# Altium integrated library National Semiconductor Switcher.IntLib: 2226 symbols (part 57 of 59)
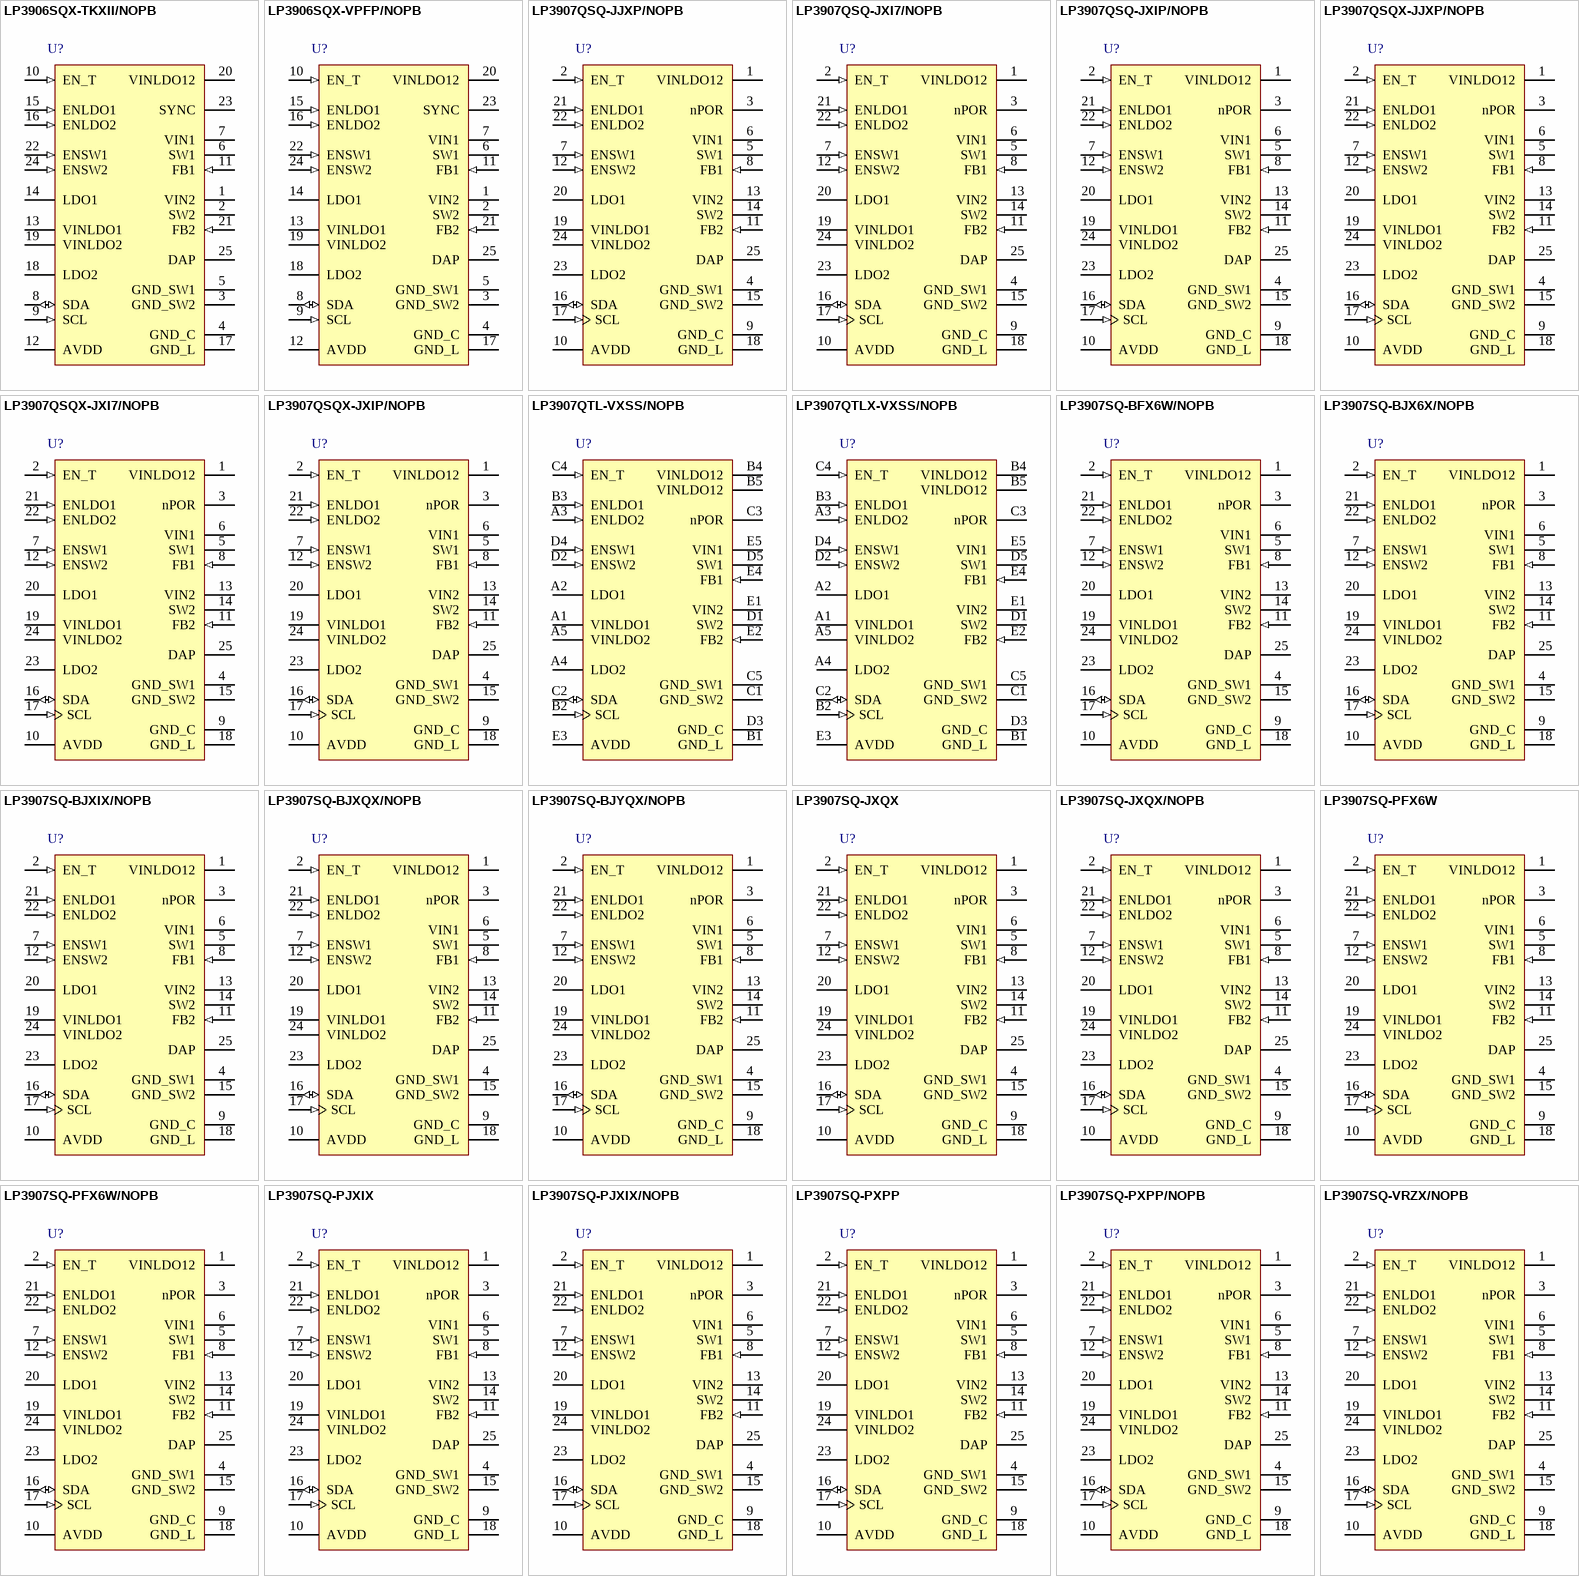
[diagram p125: symbols LP3906SQX-TKXII/NOPB to LP3907SQ-VRZX/NOPB]

## LP3907SQ-JXQX
designator U?
Dual High-Current Step-Down DC/DC and Dual Linear Regulator with I2C Compatible Interface, 24-pin LLP; PartNumber: LP3907SQ-JXQX; Manufacturer: National Semiconductor; PackageTopMarking: NS*UZXYTT*07-JXQX; PowerWise: Y; CompType: Switcher; DatasheetVersion: Dec-2010; PackageVersion: revB, Aug-2003; PackageReference: SQA24A; PackageDescription: LLP, Plastic, Quad, 4 x 4 x 0.8mm Body, 24 Lead, 0.5mm Pitch, No Pullback; RoHS: Y; PinCount: 24; High-Reliability: Y; Code_JEDEC: MO-220-WGGD-6; ComponentLink1Description: Manufacturer URL; ComponentLink1URL: http://www.national.com/; ComponentLink2Description: LP3907 Datasheet; ComponentLink2URL: http://www.national.com/ds/LP/LP3907.pdf; ComponentLink3Description: LP3907 Web Page; ComponentLink3URL: http://www.national.com/pf/LP/LP3907.html; ComponentLink4Description: SQA24A Package Page; ComponentLink4URL: http://www.national.com/packaging/folders/sqa24a.html
footprint SQA24A (QFN, 24-Leads, Body 4x4mm, Pitch 0.5mm, Thermal Pad 2.7x2.7mm, NSC Recommended)
pins: 1 VINLDO12 (power), 2 EN_T (in), 3 nPOR (oc), 4 GND_SW1 (power), 5 SW1 (power), 6 VIN1 (power), 7 ENSW1 (in), 8 FB1 (in), 9 GND_C (power), 10 AVDD (power), 11 FB2 (in), 12 ENSW2 (in), 13 VIN2 (power), 14 SW2 (power), 15 GND_SW2 (power), 16 SDA (io), 17 SCL (in), 18 GND_L (power), 19 VINLDO1 (power), 20 LDO1 (power), 21 ENLDO1 (in), 22 ENLDO2 (in), 23 LDO2 (power), 24 VINLDO2 (power), 25 DAP (power)

## LP3907SQ-JXQX/NOPB
designator U?
Dual High-Current Step-Down DC/DC and Dual Linear Regulator with I2C Compatible Interface, 24-pin LLP, Pb-Free, 1000 Reel; PartNumber: LP3907SQ-JXQX/NOPB; Manufacturer: National Semiconductor; PackageTopMarking: NS*UZXYTT*07-JXQX; PowerWise: Y; CompType: Switcher; DatasheetVersion: Aug-2011; PackageVersion: revB, Aug-2003; PackageReference: SQA24A; PackageDescription: LLP, Plastic, Quad, 4 x 4 x 0.8mm Body, 24 Lead, 0.5mm Pitch, No Pullback; RoHS: Y; PinCount: 24; High-Reliability: Y; Code_JEDEC: MO-220-WGGD-6; ComponentLink1Description: Manufacturer URL; ComponentLink1URL: http://www.national.com/; ComponentLink2Description: LP3907 Datasheet; ComponentLink2URL: http://www.national.com/ds/LP/LP3907.pdf; ComponentLink3Description: LP3907 Web Page; ComponentLink3URL: http://www.national.com/pf/LP/LP3907.html; ComponentLink4Description: SQA24A Package Page; ComponentLink4URL: http://www.national.com/packaging/folders/sqa24a.html
footprint SQA24A (QFN, 24-Leads, Body 4x4mm, Pitch 0.5mm, Thermal Pad 2.7x2.7mm, NSC Recommended)
pins: 1 VINLDO12 (power), 2 EN_T (in), 3 nPOR (oc), 4 GND_SW1 (power), 5 SW1 (power), 6 VIN1 (power), 7 ENSW1 (in), 8 FB1 (in), 9 GND_C (power), 10 AVDD (power), 11 FB2 (in), 12 ENSW2 (in), 13 VIN2 (power), 14 SW2 (power), 15 GND_SW2 (power), 16 SDA (io), 17 SCL (in), 18 GND_L (power), 19 VINLDO1 (power), 20 LDO1 (power), 21 ENLDO1 (in), 22 ENLDO2 (in), 23 LDO2 (power), 24 VINLDO2 (power), 25 DAP (power)

## LP3907SQ-PFX6W
designator U?
Dual High-Current Step-Down DC/DC and Dual Linear Regulator with I2C Compatible Interface, 24-pin LLP; PartNumber: LP3907SQ-PFX6W; Manufacturer: National Semiconductor; PackageTopMarking: NS*UZXYTT*7PFX6W; PowerWise: N; CompType: Switcher; High-Reliability: Y; DatasheetVersion: Dec-2010; PackageVersion: revB, Aug-2003; PackageReference: SQA24A; PackageDescription: LLP, Plastic, Quad, 4 x 4 x 0.8mm Body, 24 Lead, 0.5mm Pitch, No Pullback; RoHS: Y; PinCount: 24; Code_JEDEC: MO-220-WGGD-6; ComponentLink1Description: Manufacturer URL; ComponentLink1URL: http://www.national.com/; ComponentLink2Description: LP3907 Datasheet; ComponentLink2URL: http://www.national.com/ds/LP/LP3907.pdf; ComponentLink3Description: LP3907 Web Page; ComponentLink3URL: http://www.national.com/pf/LP/LP3907.html; ComponentLink4Description: SQA24A Package Page; ComponentLink4URL: http://www.national.com/packaging/folders/sqa24a.html
footprint SQA24A (QFN, 24-Leads, Body 4x4mm, Pitch 0.5mm, Thermal Pad 2.7x2.7mm, NSC Recommended)
pins: 1 VINLDO12 (power), 2 EN_T (in), 3 nPOR (oc), 4 GND_SW1 (power), 5 SW1 (power), 6 VIN1 (power), 7 ENSW1 (in), 8 FB1 (in), 9 GND_C (power), 10 AVDD (power), 11 FB2 (in), 12 ENSW2 (in), 13 VIN2 (power), 14 SW2 (power), 15 GND_SW2 (power), 16 SDA (io), 17 SCL (in), 18 GND_L (power), 19 VINLDO1 (power), 20 LDO1 (power), 21 ENLDO1 (in), 22 ENLDO2 (in), 23 LDO2 (power), 24 VINLDO2 (power), 25 DAP (power)

## LP3907SQ-PFX6W/NOPB
designator U?
Dual High-Current Step-Down DC/DC and Dual Linear Regulator with I2C Compatible Interface, 24-pin LLP, Pb-Free, 1000 Reel; PartNumber: LP3907SQ-PFX6W/NOPB; Manufacturer: National Semiconductor; PackageTopMarking: NS*UZXYTT*7PFX6W; PowerWise: N; CompType: Switcher; High-Reliability: Y; DatasheetVersion: Aug-2011; PackageVersion: revB, Aug-2003; PackageReference: SQA24A; PackageDescription: LLP, Plastic, Quad, 4 x 4 x 0.8mm Body, 24 Lead, 0.5mm Pitch, No Pullback; RoHS: Y; PinCount: 24; Code_JEDEC: MO-220-WGGD-6; ComponentLink1Description: Manufacturer URL; ComponentLink1URL: http://www.national.com/; ComponentLink2Description: LP3907 Datasheet; ComponentLink2URL: http://www.national.com/ds/LP/LP3907.pdf; ComponentLink3Description: LP3907 Web Page; ComponentLink3URL: http://www.national.com/pf/LP/LP3907.html; ComponentLink4Description: SQA24A Package Page; ComponentLink4URL: http://www.national.com/packaging/folders/sqa24a.html
footprint SQA24A (QFN, 24-Leads, Body 4x4mm, Pitch 0.5mm, Thermal Pad 2.7x2.7mm, NSC Recommended)
pins: 1 VINLDO12 (power), 2 EN_T (in), 3 nPOR (oc), 4 GND_SW1 (power), 5 SW1 (power), 6 VIN1 (power), 7 ENSW1 (in), 8 FB1 (in), 9 GND_C (power), 10 AVDD (power), 11 FB2 (in), 12 ENSW2 (in), 13 VIN2 (power), 14 SW2 (power), 15 GND_SW2 (power), 16 SDA (io), 17 SCL (in), 18 GND_L (power), 19 VINLDO1 (power), 20 LDO1 (power), 21 ENLDO1 (in), 22 ENLDO2 (in), 23 LDO2 (power), 24 VINLDO2 (power), 25 DAP (power)

## LP3907SQ-PJXIX
designator U?
Dual High-Current Step-Down DC/DC and Dual Linear Regulator with I2C Compatible Interface, 24-pin LLP; PartNumber: LP3907SQ-PJXIX; Manufacturer: National Semiconductor; PackageTopMarking: NS*UZXYTT*07PJXIX; PowerWise: N; CompType: Switcher; High-Reliability: Y; DatasheetVersion: Dec-2010; PackageVersion: revB, Aug-2003; PackageReference: SQA24A; PackageDescription: LLP, Plastic, Quad, 4 x 4 x 0.8mm Body, 24 Lead, 0.5mm Pitch, No Pullback; RoHS: Y; PinCount: 24; Code_JEDEC: MO-220-WGGD-6; ComponentLink1Description: Manufacturer URL; ComponentLink1URL: http://www.national.com/; ComponentLink2Description: LP3907 Datasheet; ComponentLink2URL: http://www.national.com/ds/LP/LP3907.pdf; ComponentLink3Description: LP3907 Web Page; ComponentLink3URL: http://www.national.com/pf/LP/LP3907.html; ComponentLink4Description: SQA24A Package Page; ComponentLink4URL: http://www.national.com/packaging/folders/sqa24a.html
footprint SQA24A (QFN, 24-Leads, Body 4x4mm, Pitch 0.5mm, Thermal Pad 2.7x2.7mm, NSC Recommended)
pins: 1 VINLDO12 (power), 2 EN_T (in), 3 nPOR (oc), 4 GND_SW1 (power), 5 SW1 (power), 6 VIN1 (power), 7 ENSW1 (in), 8 FB1 (in), 9 GND_C (power), 10 AVDD (power), 11 FB2 (in), 12 ENSW2 (in), 13 VIN2 (power), 14 SW2 (power), 15 GND_SW2 (power), 16 SDA (io), 17 SCL (in), 18 GND_L (power), 19 VINLDO1 (power), 20 LDO1 (power), 21 ENLDO1 (in), 22 ENLDO2 (in), 23 LDO2 (power), 24 VINLDO2 (power), 25 DAP (power)

## LP3907SQ-PJXIX/NOPB
designator U?
Dual High-Current Step-Down DC/DC and Dual Linear Regulator with I2C Compatible Interface, 24-pin LLP, Pb-Free, 1000 Reel; PartNumber: LP3907SQ-PJXIX/NOPB; Manufacturer: National Semiconductor; PackageTopMarking: NS*UZXYTT*07PJXIX; PowerWise: N; CompType: Switcher; High-Reliability: Y; DatasheetVersion: Aug-2011; PackageVersion: revB, Aug-2003; PackageReference: SQA24A; PackageDescription: LLP, Plastic, Quad, 4 x 4 x 0.8mm Body, 24 Lead, 0.5mm Pitch, No Pullback; RoHS: Y; PinCount: 24; Code_JEDEC: MO-220-WGGD-6; ComponentLink1Description: Manufacturer URL; ComponentLink1URL: http://www.national.com/; ComponentLink2Description: LP3907 Datasheet; ComponentLink2URL: http://www.national.com/ds/LP/LP3907.pdf; ComponentLink3Description: LP3907 Web Page; ComponentLink3URL: http://www.national.com/pf/LP/LP3907.html; ComponentLink4Description: SQA24A Package Page; ComponentLink4URL: http://www.national.com/packaging/folders/sqa24a.html
footprint SQA24A (QFN, 24-Leads, Body 4x4mm, Pitch 0.5mm, Thermal Pad 2.7x2.7mm, NSC Recommended)
pins: 1 VINLDO12 (power), 2 EN_T (in), 3 nPOR (oc), 4 GND_SW1 (power), 5 SW1 (power), 6 VIN1 (power), 7 ENSW1 (in), 8 FB1 (in), 9 GND_C (power), 10 AVDD (power), 11 FB2 (in), 12 ENSW2 (in), 13 VIN2 (power), 14 SW2 (power), 15 GND_SW2 (power), 16 SDA (io), 17 SCL (in), 18 GND_L (power), 19 VINLDO1 (power), 20 LDO1 (power), 21 ENLDO1 (in), 22 ENLDO2 (in), 23 LDO2 (power), 24 VINLDO2 (power), 25 DAP (power)

## LP3907SQ-PXPP
designator U?
Dual High-Current Step-Down DC/DC and Dual Linear Regulator with I2C Compatible Interface, 24-pin LLP; PartNumber: LP3907SQ-PXPP; Manufacturer: National Semiconductor; PackageTopMarking: NS*UZXYTT*07-PXPP; PowerWise: Y; CompType: Switcher; DatasheetVersion: Dec-2010; PackageVersion: revB, Aug-2003; PackageReference: SQA24A; PackageDescription: LLP, Plastic, Quad, 4 x 4 x 0.8mm Body, 24 Lead, 0.5mm Pitch, No Pullback; RoHS: Y; PinCount: 24; High-Reliability: Y; Code_JEDEC: MO-220-WGGD-6; ComponentLink1Description: Manufacturer URL; ComponentLink1URL: http://www.national.com/; ComponentLink2Description: LP3907 Datasheet; ComponentLink2URL: http://www.national.com/ds/LP/LP3907.pdf; ComponentLink3Description: LP3907 Web Page; ComponentLink3URL: http://www.national.com/pf/LP/LP3907.html; ComponentLink4Description: SQA24A Package Page; ComponentLink4URL: http://www.national.com/packaging/folders/sqa24a.html
footprint SQA24A (QFN, 24-Leads, Body 4x4mm, Pitch 0.5mm, Thermal Pad 2.7x2.7mm, NSC Recommended)
pins: 1 VINLDO12 (power), 2 EN_T (in), 3 nPOR (oc), 4 GND_SW1 (power), 5 SW1 (power), 6 VIN1 (power), 7 ENSW1 (in), 8 FB1 (in), 9 GND_C (power), 10 AVDD (power), 11 FB2 (in), 12 ENSW2 (in), 13 VIN2 (power), 14 SW2 (power), 15 GND_SW2 (power), 16 SDA (io), 17 SCL (in), 18 GND_L (power), 19 VINLDO1 (power), 20 LDO1 (power), 21 ENLDO1 (in), 22 ENLDO2 (in), 23 LDO2 (power), 24 VINLDO2 (power), 25 DAP (power)

## LP3907SQ-PXPP/NOPB
designator U?
Dual High-Current Step-Down DC/DC and Dual Linear Regulator with I2C Compatible Interface, 24-pin LLP, Pb-Free, 1000 Reel; PartNumber: LP3907SQ-PXPP/NOPB; Manufacturer: National Semiconductor; PackageTopMarking: NS*UZXYTT*07-PXPP; PowerWise: Y; CompType: Switcher; DatasheetVersion: Aug-2011; PackageVersion: revB, Aug-2003; PackageReference: SQA24A; PackageDescription: LLP, Plastic, Quad, 4 x 4 x 0.8mm Body, 24 Lead, 0.5mm Pitch, No Pullback; RoHS: Y; PinCount: 24; High-Reliability: Y; Code_JEDEC: MO-220-WGGD-6; ComponentLink1Description: Manufacturer URL; ComponentLink1URL: http://www.national.com/; ComponentLink2Description: LP3907 Datasheet; ComponentLink2URL: http://www.national.com/ds/LP/LP3907.pdf; ComponentLink3Description: LP3907 Web Page; ComponentLink3URL: http://www.national.com/pf/LP/LP3907.html; ComponentLink4Description: SQA24A Package Page; ComponentLink4URL: http://www.national.com/packaging/folders/sqa24a.html
footprint SQA24A (QFN, 24-Leads, Body 4x4mm, Pitch 0.5mm, Thermal Pad 2.7x2.7mm, NSC Recommended)
pins: 1 VINLDO12 (power), 2 EN_T (in), 3 nPOR (oc), 4 GND_SW1 (power), 5 SW1 (power), 6 VIN1 (power), 7 ENSW1 (in), 8 FB1 (in), 9 GND_C (power), 10 AVDD (power), 11 FB2 (in), 12 ENSW2 (in), 13 VIN2 (power), 14 SW2 (power), 15 GND_SW2 (power), 16 SDA (io), 17 SCL (in), 18 GND_L (power), 19 VINLDO1 (power), 20 LDO1 (power), 21 ENLDO1 (in), 22 ENLDO2 (in), 23 LDO2 (power), 24 VINLDO2 (power), 25 DAP (power)

## LP3907SQ-VRZX/NOPB
designator U?
Dual High-Current Step-Down DC/DC and Dual Linear Regulator with I2C-Compatible Interface, 24-pin LLP, 1000 Reel; PartNumber: LP3907SQ-VRZX/NOPB; Manufacturer: National Semiconductor; PackageTopMarking: NS*UZXYTT*07-VRZX; PowerWise: N; CompType: Switcher; High-Reliability: Y; DatasheetVersion: Aug-2011; PackageVersion: revB, Aug-2003; PackageReference: SQA24A; PackageDescription: LLP, Plastic, Quad, 4 x 4 x 0.8mm Body, 24 Lead, 0.5mm Pitch, No Pullback; RoHS: Y; PinCount: 24; Code_JEDEC: MO-220-WGGD-6; ComponentLink1Description: Manufacturer URL; ComponentLink1URL: http://www.national.com/; ComponentLink2Description: LP3907 Datasheet; ComponentLink2URL: http://www.national.com/ds/LP/LP3907.pdf; ComponentLink3Description: LP3907 Web Page; ComponentLink3URL: http://www.national.com/pf/LP/LP3907.html; ComponentLink4Description: SQA24A Package Page; ComponentLink4URL: http://www.national.com/packaging/folders/sqa24a.html
footprint SQA24A (QFN, 24-Leads, Body 4x4mm, Pitch 0.5mm, Thermal Pad 2.7x2.7mm, NSC Recommended)
pins: 1 VINLDO12 (power), 2 EN_T (in), 3 nPOR (oc), 4 GND_SW1 (power), 5 SW1 (power), 6 VIN1 (power), 7 ENSW1 (in), 8 FB1 (in), 9 GND_C (power), 10 AVDD (power), 11 FB2 (in), 12 ENSW2 (in), 13 VIN2 (power), 14 SW2 (power), 15 GND_SW2 (power), 16 SDA (io), 17 SCL (in), 18 GND_L (power), 19 VINLDO1 (power), 20 LDO1 (power), 21 ENLDO1 (in), 22 ENLDO2 (in), 23 LDO2 (power), 24 VINLDO2 (power), 25 DAP (power)

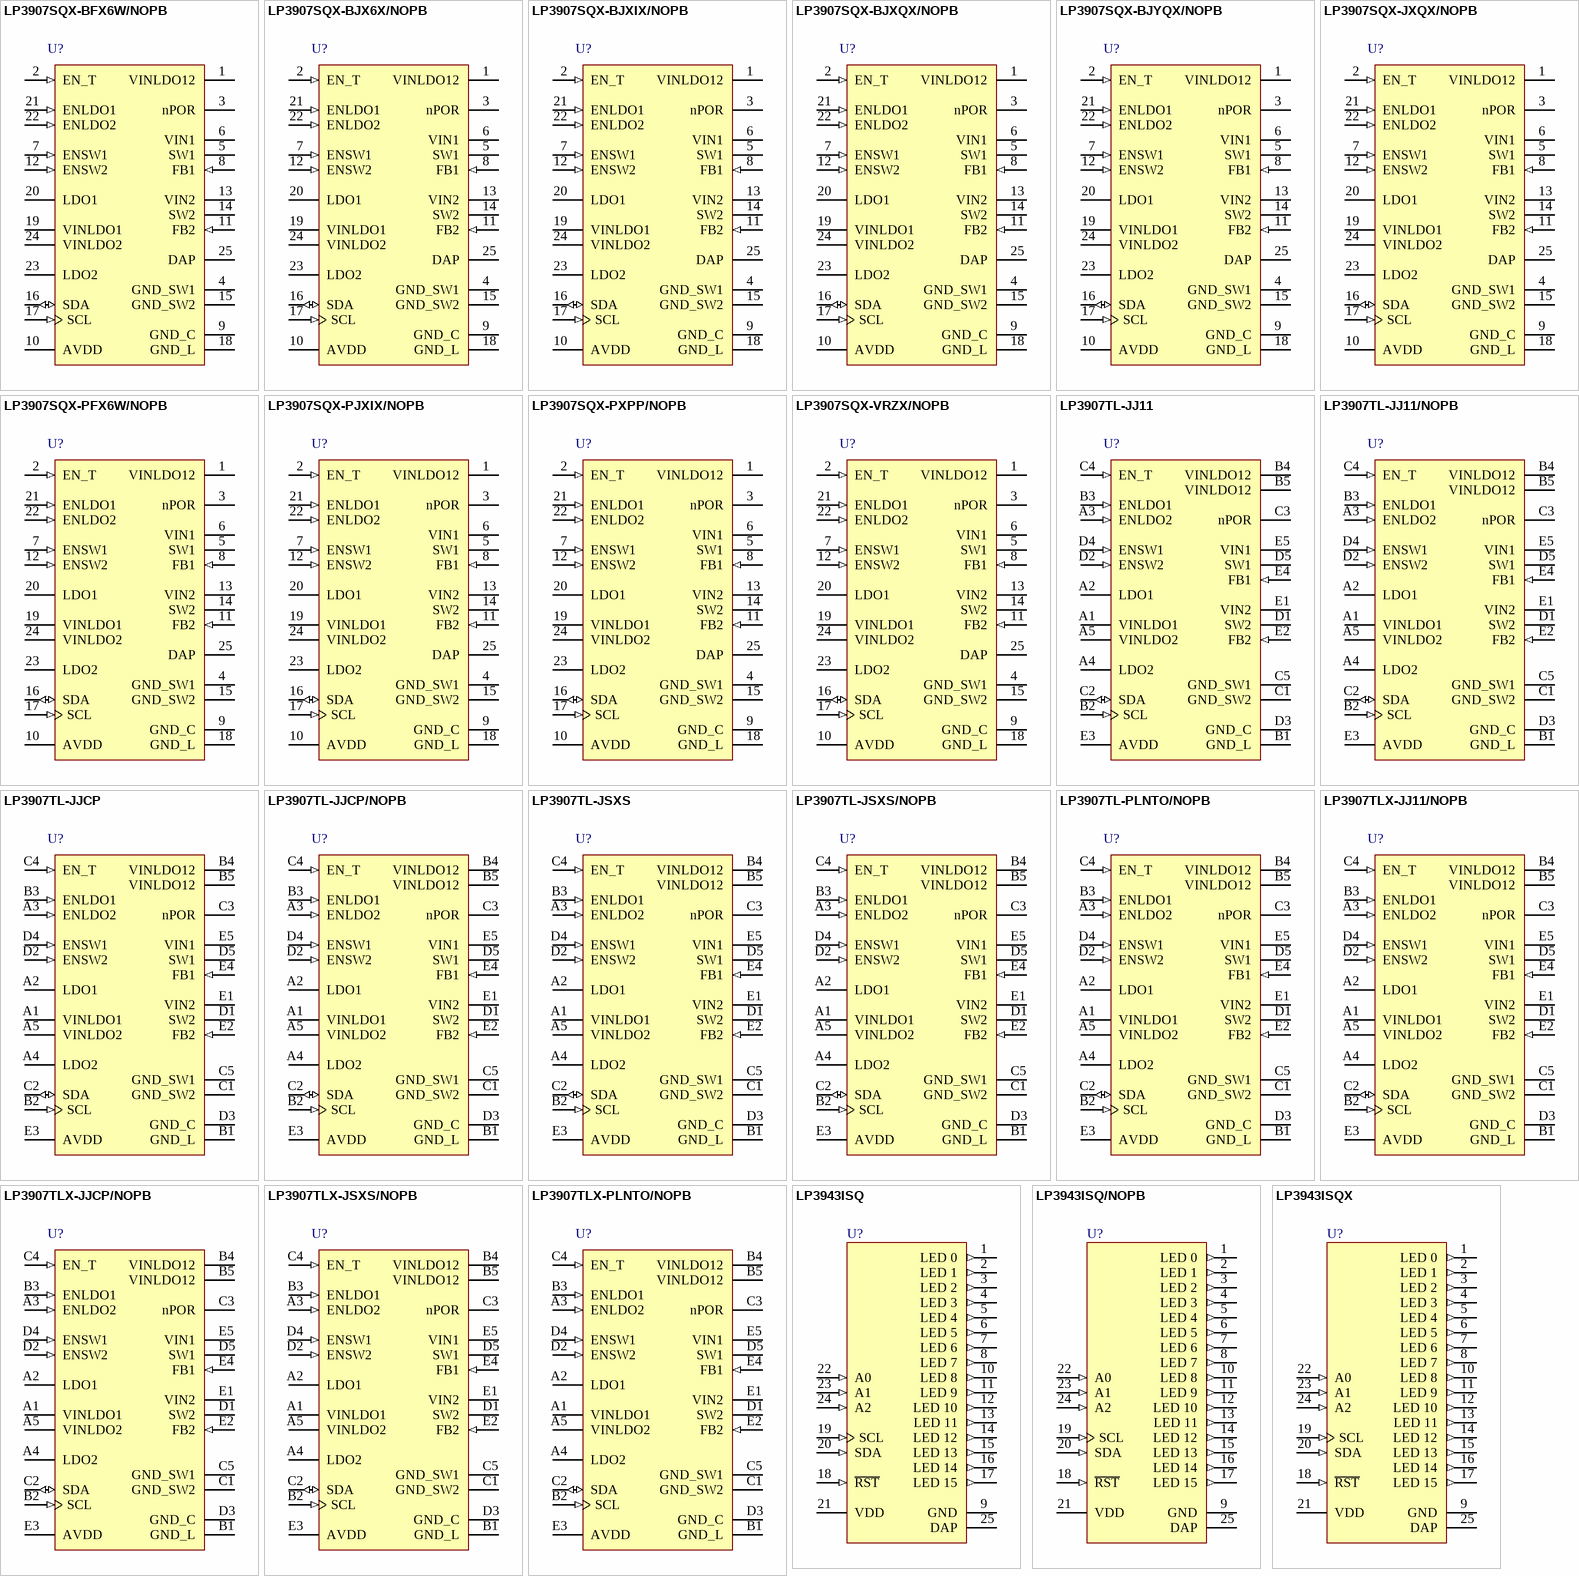
[diagram p66: symbols LP3907SQX-BFX6W/NOPB to LP3943ISQX]

## LP3907SQX-BFX6W/NOPB
designator U?
Dual High-Current Step-Down DC/DC and Dual Linear Regulator with I2C Compatible Interface, 24-pin LLP, Pb-Free, 4500 Reel; PartNumber: LP3907SQX-BFX6W/NOPB; Manufacturer: National Semiconductor; PackageTopMarking: NS*UZXYTT*7BFX6W; PowerWise: N; CompType: Switcher; High-Reliability: Y; DatasheetVersion: Aug-2011; PackageVersion: revB, Aug-2003; PackageReference: SQA24A; PackageDescription: LLP, Plastic, Quad, 4 x 4 x 0.8mm Body, 24 Lead, 0.5mm Pitch, No Pullback; RoHS: Y; PinCount: 24; Code_JEDEC: MO-220-WGGD-6; ComponentLink1Description: Manufacturer URL; ComponentLink1URL: http://www.national.com/; ComponentLink2Description: LP3907 Datasheet; ComponentLink2URL: http://www.national.com/ds/LP/LP3907.pdf; ComponentLink3Description: LP3907 Web Page; ComponentLink3URL: http://www.national.com/pf/LP/LP3907.html; ComponentLink4Description: SQA24A Package Page; ComponentLink4URL: http://www.national.com/packaging/folders/sqa24a.html
footprint SQA24A (QFN, 24-Leads, Body 4x4mm, Pitch 0.5mm, Thermal Pad 2.7x2.7mm, NSC Recommended)
pins: 1 VINLDO12 (power), 2 EN_T (in), 3 nPOR (oc), 4 GND_SW1 (power), 5 SW1 (power), 6 VIN1 (power), 7 ENSW1 (in), 8 FB1 (in), 9 GND_C (power), 10 AVDD (power), 11 FB2 (in), 12 ENSW2 (in), 13 VIN2 (power), 14 SW2 (power), 15 GND_SW2 (power), 16 SDA (io), 17 SCL (in), 18 GND_L (power), 19 VINLDO1 (power), 20 LDO1 (power), 21 ENLDO1 (in), 22 ENLDO2 (in), 23 LDO2 (power), 24 VINLDO2 (power), 25 DAP (power)

## LP3907SQX-BJX6X/NOPB
designator U?
Dual High-Current Step-Down DC/DC and Dual Linear Regulator with I2C-Compatible Interface, 24-pin LLP, Reel; PartNumber: LP3907SQX-BJX6X/NOPB; Manufacturer: National Semiconductor; PackageTopMarking: NS*UZXYTT*07BJX6X; PowerWise: N; CompType: Switcher; High-Reliability: Y; DatasheetVersion: Aug-2011; PackageVersion: revB, Aug-2003; PackageReference: SQA24A; PackageDescription: LLP, Plastic, Quad, 4 x 4 x 0.8mm Body, 24 Lead, 0.5mm Pitch, No Pullback; RoHS: Y; PinCount: 24; Code_JEDEC: MO-220-WGGD-6; ComponentLink1Description: Manufacturer URL; ComponentLink1URL: http://www.national.com/; ComponentLink2Description: LP3907 Datasheet; ComponentLink2URL: http://www.national.com/ds/LP/LP3907.pdf; ComponentLink3Description: LP3907 Web Page; ComponentLink3URL: http://www.national.com/pf/LP/LP3907.html; ComponentLink4Description: SQA24A Package Page; ComponentLink4URL: http://www.national.com/packaging/folders/sqa24a.html
footprint SQA24A (QFN, 24-Leads, Body 4x4mm, Pitch 0.5mm, Thermal Pad 2.7x2.7mm, NSC Recommended)
pins: 1 VINLDO12 (power), 2 EN_T (in), 3 nPOR (oc), 4 GND_SW1 (power), 5 SW1 (power), 6 VIN1 (power), 7 ENSW1 (in), 8 FB1 (in), 9 GND_C (power), 10 AVDD (power), 11 FB2 (in), 12 ENSW2 (in), 13 VIN2 (power), 14 SW2 (power), 15 GND_SW2 (power), 16 SDA (io), 17 SCL (in), 18 GND_L (power), 19 VINLDO1 (power), 20 LDO1 (power), 21 ENLDO1 (in), 22 ENLDO2 (in), 23 LDO2 (power), 24 VINLDO2 (power), 25 DAP (power)

## LP3907SQX-BJXIX/NOPB
designator U?
Dual High-Current Step-Down DC/DC and Dual Linear Regulator with I2C Compatible Interface, 24-pin LLP, Pb-Free, 4500 Reel; PartNumber: LP3907SQX-BJXIX/NOPB; Manufacturer: National Semiconductor; PackageTopMarking: NS*UZXYTT*07BJXIX; PowerWise: N; CompType: Switcher; High-Reliability: Y; DatasheetVersion: Aug-2011; PackageVersion: revB, Aug-2003; PackageReference: SQA24A; PackageDescription: LLP, Plastic, Quad, 4 x 4 x 0.8mm Body, 24 Lead, 0.5mm Pitch, No Pullback; RoHS: Y; PinCount: 24; Code_JEDEC: MO-220-WGGD-6; ComponentLink1Description: Manufacturer URL; ComponentLink1URL: http://www.national.com/; ComponentLink2Description: LP3907 Datasheet; ComponentLink2URL: http://www.national.com/ds/LP/LP3907.pdf; ComponentLink3Description: LP3907 Web Page; ComponentLink3URL: http://www.national.com/pf/LP/LP3907.html; ComponentLink4Description: SQA24A Package Page; ComponentLink4URL: http://www.national.com/packaging/folders/sqa24a.html
footprint SQA24A (QFN, 24-Leads, Body 4x4mm, Pitch 0.5mm, Thermal Pad 2.7x2.7mm, NSC Recommended)
pins: 1 VINLDO12 (power), 2 EN_T (in), 3 nPOR (oc), 4 GND_SW1 (power), 5 SW1 (power), 6 VIN1 (power), 7 ENSW1 (in), 8 FB1 (in), 9 GND_C (power), 10 AVDD (power), 11 FB2 (in), 12 ENSW2 (in), 13 VIN2 (power), 14 SW2 (power), 15 GND_SW2 (power), 16 SDA (io), 17 SCL (in), 18 GND_L (power), 19 VINLDO1 (power), 20 LDO1 (power), 21 ENLDO1 (in), 22 ENLDO2 (in), 23 LDO2 (power), 24 VINLDO2 (power), 25 DAP (power)

## LP3907SQX-BJXQX/NOPB
designator U?
Dual High-Current Step-Down DC/DC and Dual Linear Regulator with I2C Compatible Interface, 24-pin LLP, Pb-Free, 4500 Reel; PartNumber: LP3907SQX-BJXQX/NOPB; Manufacturer: National Semiconductor; PackageTopMarking: NS*UZXYTT*07BJXQX; PowerWise: N; CompType: Switcher; High-Reliability: Y; DatasheetVersion: Aug-2011; PackageVersion: revB, Aug-2003; PackageReference: SQA24A; PackageDescription: LLP, Plastic, Quad, 4 x 4 x 0.8mm Body, 24 Lead, 0.5mm Pitch, No Pullback; RoHS: Y; PinCount: 24; Code_JEDEC: MO-220-WGGD-6; ComponentLink1Description: Manufacturer URL; ComponentLink1URL: http://www.national.com/; ComponentLink2Description: LP3907 Datasheet; ComponentLink2URL: http://www.national.com/ds/LP/LP3907.pdf; ComponentLink3Description: LP3907 Web Page; ComponentLink3URL: http://www.national.com/pf/LP/LP3907.html; ComponentLink4Description: SQA24A Package Page; ComponentLink4URL: http://www.national.com/packaging/folders/sqa24a.html
footprint SQA24A (QFN, 24-Leads, Body 4x4mm, Pitch 0.5mm, Thermal Pad 2.7x2.7mm, NSC Recommended)
pins: 1 VINLDO12 (power), 2 EN_T (in), 3 nPOR (oc), 4 GND_SW1 (power), 5 SW1 (power), 6 VIN1 (power), 7 ENSW1 (in), 8 FB1 (in), 9 GND_C (power), 10 AVDD (power), 11 FB2 (in), 12 ENSW2 (in), 13 VIN2 (power), 14 SW2 (power), 15 GND_SW2 (power), 16 SDA (io), 17 SCL (in), 18 GND_L (power), 19 VINLDO1 (power), 20 LDO1 (power), 21 ENLDO1 (in), 22 ENLDO2 (in), 23 LDO2 (power), 24 VINLDO2 (power), 25 DAP (power)

## LP3907SQX-BJYQX/NOPB
designator U?
Dual High-Current Step-Down DC/DC and Dual Linear Regulator with I2C Compatible Interface, 24-pin LLP, Pb-Free, 4500 Reel; PartNumber: LP3907SQX-BJYQX/NOPB; Manufacturer: National Semiconductor; PackageTopMarking: NS*UZXYTT*07BJYQX; PowerWise: N; CompType: Switcher; High-Reliability: Y; DatasheetVersion: Aug-2011; PackageVersion: revB, Aug-2003; PackageReference: SQA24A; PackageDescription: LLP, Plastic, Quad, 4 x 4 x 0.8mm Body, 24 Lead, 0.5mm Pitch, No Pullback; RoHS: Y; PinCount: 24; Code_JEDEC: MO-220-WGGD-6; ComponentLink1Description: Manufacturer URL; ComponentLink1URL: http://www.national.com/; ComponentLink2Description: LP3907 Datasheet; ComponentLink2URL: http://www.national.com/ds/LP/LP3907.pdf; ComponentLink3Description: LP3907 Web Page; ComponentLink3URL: http://www.national.com/pf/LP/LP3907.html; ComponentLink4Description: SQA24A Package Page; ComponentLink4URL: http://www.national.com/packaging/folders/sqa24a.html
footprint SQA24A (QFN, 24-Leads, Body 4x4mm, Pitch 0.5mm, Thermal Pad 2.7x2.7mm, NSC Recommended)
pins: 1 VINLDO12 (power), 2 EN_T (in), 3 nPOR (oc), 4 GND_SW1 (power), 5 SW1 (power), 6 VIN1 (power), 7 ENSW1 (in), 8 FB1 (in), 9 GND_C (power), 10 AVDD (power), 11 FB2 (in), 12 ENSW2 (in), 13 VIN2 (power), 14 SW2 (power), 15 GND_SW2 (power), 16 SDA (io), 17 SCL (in), 18 GND_L (power), 19 VINLDO1 (power), 20 LDO1 (power), 21 ENLDO1 (in), 22 ENLDO2 (in), 23 LDO2 (power), 24 VINLDO2 (power), 25 DAP (power)

## LP3907SQX-JXQX/NOPB
designator U?
Dual High-Current Step-Down DC/DC and Dual Linear Regulator with I2C Compatible Interface, 24-pin LLP, Pb-Free, 4500 Reel; PartNumber: LP3907SQX-JXQX/NOPB; Manufacturer: National Semiconductor; PackageTopMarking: NS*UZXYTT*07-JXQX; PowerWise: N; CompType: Switcher; High-Reliability: Y; DatasheetVersion: Aug-2011; PackageVersion: revB, Aug-2003; PackageReference: SQA24A; PackageDescription: LLP, Plastic, Quad, 4 x 4 x 0.8mm Body, 24 Lead, 0.5mm Pitch, No Pullback; RoHS: Y; PinCount: 24; Code_JEDEC: MO-220-WGGD-6; ComponentLink1Description: Manufacturer URL; ComponentLink1URL: http://www.national.com/; ComponentLink2Description: LP3907 Datasheet; ComponentLink2URL: http://www.national.com/ds/LP/LP3907.pdf; ComponentLink3Description: LP3907 Web Page; ComponentLink3URL: http://www.national.com/pf/LP/LP3907.html; ComponentLink4Description: SQA24A Package Page; ComponentLink4URL: http://www.national.com/packaging/folders/sqa24a.html
footprint SQA24A (QFN, 24-Leads, Body 4x4mm, Pitch 0.5mm, Thermal Pad 2.7x2.7mm, NSC Recommended)
pins: 1 VINLDO12 (power), 2 EN_T (in), 3 nPOR (oc), 4 GND_SW1 (power), 5 SW1 (power), 6 VIN1 (power), 7 ENSW1 (in), 8 FB1 (in), 9 GND_C (power), 10 AVDD (power), 11 FB2 (in), 12 ENSW2 (in), 13 VIN2 (power), 14 SW2 (power), 15 GND_SW2 (power), 16 SDA (io), 17 SCL (in), 18 GND_L (power), 19 VINLDO1 (power), 20 LDO1 (power), 21 ENLDO1 (in), 22 ENLDO2 (in), 23 LDO2 (power), 24 VINLDO2 (power), 25 DAP (power)

## LP3907SQX-PFX6W/NOPB
designator U?
Dual High-Current Step-Down DC/DC and Dual Linear Regulator with I2C Compatible Interface, 24-pin LLP, Pb-Free, 4500 Reel; PartNumber: LP3907SQX-PFX6W/NOPB; Manufacturer: National Semiconductor; PackageTopMarking: NS*UZXYTT*7PFX6W; PowerWise: N; CompType: Switcher; High-Reliability: Y; DatasheetVersion: Aug-2011; PackageVersion: revB, Aug-2003; PackageReference: SQA24A; PackageDescription: LLP, Plastic, Quad, 4 x 4 x 0.8mm Body, 24 Lead, 0.5mm Pitch, No Pullback; RoHS: Y; PinCount: 24; Code_JEDEC: MO-220-WGGD-6; ComponentLink1Description: Manufacturer URL; ComponentLink1URL: http://www.national.com/; ComponentLink2Description: LP3907 Datasheet; ComponentLink2URL: http://www.national.com/ds/LP/LP3907.pdf; ComponentLink3Description: LP3907 Web Page; ComponentLink3URL: http://www.national.com/pf/LP/LP3907.html; ComponentLink4Description: SQA24A Package Page; ComponentLink4URL: http://www.national.com/packaging/folders/sqa24a.html
footprint SQA24A (QFN, 24-Leads, Body 4x4mm, Pitch 0.5mm, Thermal Pad 2.7x2.7mm, NSC Recommended)
pins: 1 VINLDO12 (power), 2 EN_T (in), 3 nPOR (oc), 4 GND_SW1 (power), 5 SW1 (power), 6 VIN1 (power), 7 ENSW1 (in), 8 FB1 (in), 9 GND_C (power), 10 AVDD (power), 11 FB2 (in), 12 ENSW2 (in), 13 VIN2 (power), 14 SW2 (power), 15 GND_SW2 (power), 16 SDA (io), 17 SCL (in), 18 GND_L (power), 19 VINLDO1 (power), 20 LDO1 (power), 21 ENLDO1 (in), 22 ENLDO2 (in), 23 LDO2 (power), 24 VINLDO2 (power), 25 DAP (power)

## LP3907SQX-PJXIX/NOPB
designator U?
Dual High-Current Step-Down DC/DC and Dual Linear Regulator with I2C Compatible Interface, 24-pin LLP, Pb-Free, 4500 Reel; PartNumber: LP3907SQX-PJXIX/NOPB; Manufacturer: National Semiconductor; PackageTopMarking: NS*UZXYTT*07PJXIX; PowerWise: N; CompType: Switcher; High-Reliability: Y; DatasheetVersion: Aug-2011; PackageVersion: revB, Aug-2003; PackageReference: SQA24A; PackageDescription: LLP, Plastic, Quad, 4 x 4 x 0.8mm Body, 24 Lead, 0.5mm Pitch, No Pullback; RoHS: Y; PinCount: 24; Code_JEDEC: MO-220-WGGD-6; ComponentLink1Description: Manufacturer URL; ComponentLink1URL: http://www.national.com/; ComponentLink2Description: LP3907 Datasheet; ComponentLink2URL: http://www.national.com/ds/LP/LP3907.pdf; ComponentLink3Description: LP3907 Web Page; ComponentLink3URL: http://www.national.com/pf/LP/LP3907.html; ComponentLink4Description: SQA24A Package Page; ComponentLink4URL: http://www.national.com/packaging/folders/sqa24a.html
footprint SQA24A (QFN, 24-Leads, Body 4x4mm, Pitch 0.5mm, Thermal Pad 2.7x2.7mm, NSC Recommended)
pins: 1 VINLDO12 (power), 2 EN_T (in), 3 nPOR (oc), 4 GND_SW1 (power), 5 SW1 (power), 6 VIN1 (power), 7 ENSW1 (in), 8 FB1 (in), 9 GND_C (power), 10 AVDD (power), 11 FB2 (in), 12 ENSW2 (in), 13 VIN2 (power), 14 SW2 (power), 15 GND_SW2 (power), 16 SDA (io), 17 SCL (in), 18 GND_L (power), 19 VINLDO1 (power), 20 LDO1 (power), 21 ENLDO1 (in), 22 ENLDO2 (in), 23 LDO2 (power), 24 VINLDO2 (power), 25 DAP (power)

## LP3907SQX-PXPP/NOPB
designator U?
Dual High-Current Step-Down DC/DC and Dual Linear Regulator with I2C Compatible Interface, 24-pin LLP, Pb-Free, 4500 Reel; PartNumber: LP3907SQX-PXPP/NOPB; Manufacturer: National Semiconductor; PackageTopMarking: NS*UZXYTT*07-PXPP; PowerWise: N; CompType: Switcher; High-Reliability: Y; DatasheetVersion: Aug-2011; PackageVersion: revB, Aug-2003; PackageReference: SQA24A; PackageDescription: LLP, Plastic, Quad, 4 x 4 x 0.8mm Body, 24 Lead, 0.5mm Pitch, No Pullback; RoHS: Y; PinCount: 24; Code_JEDEC: MO-220-WGGD-6; ComponentLink1Description: Manufacturer URL; ComponentLink1URL: http://www.national.com/; ComponentLink2Description: LP3907 Datasheet; ComponentLink2URL: http://www.national.com/ds/LP/LP3907.pdf; ComponentLink3Description: LP3907 Web Page; ComponentLink3URL: http://www.national.com/pf/LP/LP3907.html; ComponentLink4Description: SQA24A Package Page; ComponentLink4URL: http://www.national.com/packaging/folders/sqa24a.html
footprint SQA24A (QFN, 24-Leads, Body 4x4mm, Pitch 0.5mm, Thermal Pad 2.7x2.7mm, NSC Recommended)
pins: 1 VINLDO12 (power), 2 EN_T (in), 3 nPOR (oc), 4 GND_SW1 (power), 5 SW1 (power), 6 VIN1 (power), 7 ENSW1 (in), 8 FB1 (in), 9 GND_C (power), 10 AVDD (power), 11 FB2 (in), 12 ENSW2 (in), 13 VIN2 (power), 14 SW2 (power), 15 GND_SW2 (power), 16 SDA (io), 17 SCL (in), 18 GND_L (power), 19 VINLDO1 (power), 20 LDO1 (power), 21 ENLDO1 (in), 22 ENLDO2 (in), 23 LDO2 (power), 24 VINLDO2 (power), 25 DAP (power)

## LP3907SQX-VRZX/NOPB
designator U?
Dual High-Current Step-Down DC/DC and Dual Linear Regulator with I2C-Compatible Interface, 24-pin LLP, 4500 Reel; PartNumber: LP3907SQX-VRZX/NOPB; Manufacturer: National Semiconductor; PackageTopMarking: NS*UZXYTT*07-VRZX; PowerWise: N; CompType: Switcher; High-Reliability: Y; DatasheetVersion: Aug-2011; PackageVersion: revB, Aug-2003; PackageReference: SQA24A; PackageDescription: LLP, Plastic, Quad, 4 x 4 x 0.8mm Body, 24 Lead, 0.5mm Pitch, No Pullback; RoHS: Y; PinCount: 24; Code_JEDEC: MO-220-WGGD-6; ComponentLink1Description: Manufacturer URL; ComponentLink1URL: http://www.national.com/; ComponentLink2Description: LP3907 Datasheet; ComponentLink2URL: http://www.national.com/ds/LP/LP3907.pdf; ComponentLink3Description: LP3907 Web Page; ComponentLink3URL: http://www.national.com/pf/LP/LP3907.html; ComponentLink4Description: SQA24A Package Page; ComponentLink4URL: http://www.national.com/packaging/folders/sqa24a.html
footprint SQA24A (QFN, 24-Leads, Body 4x4mm, Pitch 0.5mm, Thermal Pad 2.7x2.7mm, NSC Recommended)
pins: 1 VINLDO12 (power), 2 EN_T (in), 3 nPOR (oc), 4 GND_SW1 (power), 5 SW1 (power), 6 VIN1 (power), 7 ENSW1 (in), 8 FB1 (in), 9 GND_C (power), 10 AVDD (power), 11 FB2 (in), 12 ENSW2 (in), 13 VIN2 (power), 14 SW2 (power), 15 GND_SW2 (power), 16 SDA (io), 17 SCL (in), 18 GND_L (power), 19 VINLDO1 (power), 20 LDO1 (power), 21 ENLDO1 (in), 22 ENLDO2 (in), 23 LDO2 (power), 24 VINLDO2 (power), 25 DAP (power)

## LP3907TL-JJ11
designator U?
Dual High-Current Step-Down DC/DC and Dual Linear Regulator with I2C Compatible Interface, 25-pin Micro SMD; PartNumber: LP3907TL-JJ11; Manufacturer: National Semiconductor; PackageTopMarking: XYTT*I V013; PowerWise: N; CompType: Switcher; High-Reliability: Y; DatasheetVersion: Dec-2009; PackageVersion: revD, Dec-2003; PackageReference: TLA25AAA; PackageDescription: Thin Micro SMD, 25 Bump (Large), 0.5mm Pitch; RoHS: Y; PinCount: 25; Code_JEDEC: MO-211-DH; ComponentLink1Description: Manufacturer URL; ComponentLink1URL: http://www.national.com/; ComponentLink2Description: LP3907 Datasheet; ComponentLink2URL: http://www.national.com/ds/LP/LP3907.pdf; ComponentLink3Description: LP3907 Web Page; ComponentLink3URL: http://www.national.com/pf/LP/LP3907.html; ComponentLink4Description: TLA25AAA Package Page; ComponentLink4URL: http://www.national.com/packaging/folders/tla25aaa.html
footprint TLA25AAA (Micro SMD, 25-Leads, Body 2.49x2.49mm, Pitch 0.5mm, NSC Recommended)
pins: A1 VINLDO1 (power), A2 LDO1 (power), A3 ENLDO2 (in), A4 LDO2 (power), A5 VINLDO2 (power), B1 GND_L (power), B2 SCL (in), B3 ENLDO1 (in), B4 VINLDO12 (power), B5 VINLDO12 (power), C1 GND_SW2 (power), C2 SDA (io), C3 nPOR (oc), C4 EN_T (in), C5 GND_SW1 (power), D1 SW2 (power), D2 ENSW2 (in), D3 GND_C (power), D4 ENSW1 (in), D5 SW1 (power), E1 VIN2 (power), E2 FB2 (in), E3 AVDD (power), E4 FB1 (in), E5 VIN1 (power)

## LP3907TL-JJ11/NOPB
designator U?
Dual High-Current Step-Down DC/DC and Dual Linear Regulator with I2C Compatible Interface, 25-pin Micro SMD, Pb-Free, 250 Reel; PartNumber: LP3907TL-JJ11/NOPB; Manufacturer: National Semiconductor; PackageTopMarking: XYTT*I V013; PowerWise: N; CompType: Switcher; High-Reliability: Y; DatasheetVersion: Aug-2011; PackageVersion: revD, Dec-2003; PackageReference: TLA25AAA; PackageDescription: Thin Micro SMD, 25 Bump (Large), 0.5mm Pitch; RoHS: Y; PinCount: 25; Code_JEDEC: MO-211-DH; ComponentLink1Description: Manufacturer URL; ComponentLink1URL: http://www.national.com/; ComponentLink2Description: LP3907 Datasheet; ComponentLink2URL: http://www.national.com/ds/LP/LP3907.pdf; ComponentLink3Description: LP3907 Web Page; ComponentLink3URL: http://www.national.com/pf/LP/LP3907.html; ComponentLink4Description: TLA25AAA Package Page; ComponentLink4URL: http://www.national.com/packaging/folders/tla25aaa.html
footprint TLA25AAA (Micro SMD, 25-Leads, Body 2.49x2.49mm, Pitch 0.5mm, NSC Recommended)
pins: A1 VINLDO1 (power), A2 LDO1 (power), A3 ENLDO2 (in), A4 LDO2 (power), A5 VINLDO2 (power), B1 GND_L (power), B2 SCL (in), B3 ENLDO1 (in), B4 VINLDO12 (power), B5 VINLDO12 (power), C1 GND_SW2 (power), C2 SDA (io), C3 nPOR (oc), C4 EN_T (in), C5 GND_SW1 (power), D1 SW2 (power), D2 ENSW2 (in), D3 GND_C (power), D4 ENSW1 (in), D5 SW1 (power), E1 VIN2 (power), E2 FB2 (in), E3 AVDD (power), E4 FB1 (in), E5 VIN1 (power)

## LP3907TL-JJCP
designator U?
Dual High-Current Step-Down DC/DC and Dual Linear Regulator with I2C Compatible Interface, 25-pin Micro SMD; PartNumber: LP3907TL-JJCP; Manufacturer: National Semiconductor; PackageTopMarking: XYTT*I V016; PowerWise: N; CompType: Switcher; High-Reliability: Y; DatasheetVersion: Dec-2009; PackageVersion: revD, Dec-2003; PackageReference: TLA25AAA; PackageDescription: Thin Micro SMD, 25 Bump (Large), 0.5mm Pitch; RoHS: Y; PinCount: 25; Code_JEDEC: MO-211-DH; ComponentLink1Description: Manufacturer URL; ComponentLink1URL: http://www.national.com/; ComponentLink2Description: LP3907 Datasheet; ComponentLink2URL: http://www.national.com/ds/LP/LP3907.pdf; ComponentLink3Description: LP3907 Web Page; ComponentLink3URL: http://www.national.com/pf/LP/LP3907.html; ComponentLink4Description: TLA25AAA Package Page; ComponentLink4URL: http://www.national.com/packaging/folders/tla25aaa.html
footprint TLA25AAA (Micro SMD, 25-Leads, Body 2.49x2.49mm, Pitch 0.5mm, NSC Recommended)
pins: A1 VINLDO1 (power), A2 LDO1 (power), A3 ENLDO2 (in), A4 LDO2 (power), A5 VINLDO2 (power), B1 GND_L (power), B2 SCL (in), B3 ENLDO1 (in), B4 VINLDO12 (power), B5 VINLDO12 (power), C1 GND_SW2 (power), C2 SDA (io), C3 nPOR (oc), C4 EN_T (in), C5 GND_SW1 (power), D1 SW2 (power), D2 ENSW2 (in), D3 GND_C (power), D4 ENSW1 (in), D5 SW1 (power), E1 VIN2 (power), E2 FB2 (in), E3 AVDD (power), E4 FB1 (in), E5 VIN1 (power)

## LP3907TL-JJCP/NOPB
designator U?
Dual High-Current Step-Down DC/DC and Dual Linear Regulator with I2C Compatible Interface, 25-pin Micro SMD, Pb-Free, 250 Reel; PartNumber: LP3907TL-JJCP/NOPB; Manufacturer: National Semiconductor; PackageTopMarking: XYTT*I V016; PowerWise: N; CompType: Switcher; High-Reliability: Y; DatasheetVersion: Aug-2011; PackageVersion: revD, Dec-2003; PackageReference: TLA25AAA; PackageDescription: Thin Micro SMD, 25 Bump (Large), 0.5mm Pitch; RoHS: Y; PinCount: 25; Code_JEDEC: MO-211-DH; ComponentLink1Description: Manufacturer URL; ComponentLink1URL: http://www.national.com/; ComponentLink2Description: LP3907 Datasheet; ComponentLink2URL: http://www.national.com/ds/LP/LP3907.pdf; ComponentLink3Description: LP3907 Web Page; ComponentLink3URL: http://www.national.com/pf/LP/LP3907.html; ComponentLink4Description: TLA25AAA Package Page; ComponentLink4URL: http://www.national.com/packaging/folders/tla25aaa.html
footprint TLA25AAA (Micro SMD, 25-Leads, Body 2.49x2.49mm, Pitch 0.5mm, NSC Recommended)
pins: A1 VINLDO1 (power), A2 LDO1 (power), A3 ENLDO2 (in), A4 LDO2 (power), A5 VINLDO2 (power), B1 GND_L (power), B2 SCL (in), B3 ENLDO1 (in), B4 VINLDO12 (power), B5 VINLDO12 (power), C1 GND_SW2 (power), C2 SDA (io), C3 nPOR (oc), C4 EN_T (in), C5 GND_SW1 (power), D1 SW2 (power), D2 ENSW2 (in), D3 GND_C (power), D4 ENSW1 (in), D5 SW1 (power), E1 VIN2 (power), E2 FB2 (in), E3 AVDD (power), E4 FB1 (in), E5 VIN1 (power)

## LP3907TL-JSXS
designator U?
Dual High-Current Step-Down DC/DC and Dual Linear Regulator with I2C Compatible Interface, 25-pin Micro SMD; PartNumber: LP3907TL-JSXS; Manufacturer: National Semiconductor; PackageTopMarking: XYTT*I V012; PowerWise: N; CompType: Switcher; High-Reliability: Y; DatasheetVersion: Dec-2009; PackageVersion: revD, Dec-2003; PackageReference: TLA25AAA; PackageDescription: Thin Micro SMD, 25 Bump (Large), 0.5mm Pitch; RoHS: Y; PinCount: 25; Code_JEDEC: MO-211-DH; ComponentLink1Description: Manufacturer URL; ComponentLink1URL: http://www.national.com/; ComponentLink2Description: LP3907 Datasheet; ComponentLink2URL: http://www.national.com/ds/LP/LP3907.pdf; ComponentLink3Description: LP3907 Web Page; ComponentLink3URL: http://www.national.com/pf/LP/LP3907.html; ComponentLink4Description: TLA25AAA Package Page; ComponentLink4URL: http://www.national.com/packaging/folders/tla25aaa.html
footprint TLA25AAA (Micro SMD, 25-Leads, Body 2.49x2.49mm, Pitch 0.5mm, NSC Recommended)
pins: A1 VINLDO1 (power), A2 LDO1 (power), A3 ENLDO2 (in), A4 LDO2 (power), A5 VINLDO2 (power), B1 GND_L (power), B2 SCL (in), B3 ENLDO1 (in), B4 VINLDO12 (power), B5 VINLDO12 (power), C1 GND_SW2 (power), C2 SDA (io), C3 nPOR (oc), C4 EN_T (in), C5 GND_SW1 (power), D1 SW2 (power), D2 ENSW2 (in), D3 GND_C (power), D4 ENSW1 (in), D5 SW1 (power), E1 VIN2 (power), E2 FB2 (in), E3 AVDD (power), E4 FB1 (in), E5 VIN1 (power)

## LP3907TL-JSXS/NOPB
designator U?
Dual High-Current Step-Down DC/DC and Dual Linear Regulator with I2C Compatible Interface, 25-pin Micro SMD, Pb-Free, 250 Reel; PartNumber: LP3907TL-JSXS/NOPB; Manufacturer: National Semiconductor; PackageTopMarking: XYTT*I V012; PowerWise: N; CompType: Switcher; High-Reliability: Y; DatasheetVersion: Aug-2011; PackageVersion: revD, Dec-2003; PackageReference: TLA25AAA; PackageDescription: Thin Micro SMD, 25 Bump (Large), 0.5mm Pitch; RoHS: Y; PinCount: 25; Code_JEDEC: MO-211-DH; ComponentLink1Description: Manufacturer URL; ComponentLink1URL: http://www.national.com/; ComponentLink2Description: LP3907 Datasheet; ComponentLink2URL: http://www.national.com/ds/LP/LP3907.pdf; ComponentLink3Description: LP3907 Web Page; ComponentLink3URL: http://www.national.com/pf/LP/LP3907.html; ComponentLink4Description: TLA25AAA Package Page; ComponentLink4URL: http://www.national.com/packaging/folders/tla25aaa.html
footprint TLA25AAA (Micro SMD, 25-Leads, Body 2.49x2.49mm, Pitch 0.5mm, NSC Recommended)
pins: A1 VINLDO1 (power), A2 LDO1 (power), A3 ENLDO2 (in), A4 LDO2 (power), A5 VINLDO2 (power), B1 GND_L (power), B2 SCL (in), B3 ENLDO1 (in), B4 VINLDO12 (power), B5 VINLDO12 (power), C1 GND_SW2 (power), C2 SDA (io), C3 nPOR (oc), C4 EN_T (in), C5 GND_SW1 (power), D1 SW2 (power), D2 ENSW2 (in), D3 GND_C (power), D4 ENSW1 (in), D5 SW1 (power), E1 VIN2 (power), E2 FB2 (in), E3 AVDD (power), E4 FB1 (in), E5 VIN1 (power)

## LP3907TL-PLNTO/NOPB
designator U?
Dual High-Current Step-Down DC/DC and Dual Linear Regulator with I2C Compatible Interface, 25-pin Micro SMD, Pb-Free, 250 Reel; PartNumber: LP3907TL-PLNTO/NOPB; Manufacturer: National Semiconductor; PackageTopMarking: XYTT*I V027; PowerWise: N; CompType: Switcher; High-Reliability: Y; DatasheetVersion: Aug-2011; PackageVersion: revD, Dec-2003; PackageReference: TLA25AAA; PackageDescription: Thin Micro SMD, 25 Bump (Large), 0.5mm Pitch; RoHS: Y; PinCount: 25; Code_JEDEC: MO-211-DH; ComponentLink1Description: Manufacturer URL; ComponentLink1URL: http://www.national.com/; ComponentLink2Description: LP3907 Datasheet; ComponentLink2URL: http://www.national.com/ds/LP/LP3907.pdf; ComponentLink3Description: LP3907 Web Page; ComponentLink3URL: http://www.national.com/pf/LP/LP3907.html; ComponentLink4Description: TLA25AAA Package Page; ComponentLink4URL: http://www.national.com/packaging/folders/tla25aaa.html
footprint TLA25AAA (Micro SMD, 25-Leads, Body 2.49x2.49mm, Pitch 0.5mm, NSC Recommended)
pins: A1 VINLDO1 (power), A2 LDO1 (power), A3 ENLDO2 (in), A4 LDO2 (power), A5 VINLDO2 (power), B1 GND_L (power), B2 SCL (in), B3 ENLDO1 (in), B4 VINLDO12 (power), B5 VINLDO12 (power), C1 GND_SW2 (power), C2 SDA (io), C3 nPOR (oc), C4 EN_T (in), C5 GND_SW1 (power), D1 SW2 (power), D2 ENSW2 (in), D3 GND_C (power), D4 ENSW1 (in), D5 SW1 (power), E1 VIN2 (power), E2 FB2 (in), E3 AVDD (power), E4 FB1 (in), E5 VIN1 (power)

## LP3907TLX-JJ11/NOPB
designator U?
Dual High-Current Step-Down DC/DC and Dual Linear Regulator with I2C Compatible Interface, 25-pin Micro SMD, Pb-Free, 3000 Reel; PartNumber: LP3907TLX-JJ11/NOPB; Manufacturer: National Semiconductor; PackageTopMarking: XYTT*I V013; PowerWise: N; CompType: Switcher; High-Reliability: Y; DatasheetVersion: Aug-2011; PackageVersion: revD, Dec-2003; PackageReference: TLA25AAA; PackageDescription: Thin Micro SMD, 25 Bump (Large), 0.5mm Pitch; RoHS: Y; PinCount: 25; Code_JEDEC: MO-211-DH; ComponentLink1Description: Manufacturer URL; ComponentLink1URL: http://www.national.com/; ComponentLink2Description: LP3907 Datasheet; ComponentLink2URL: http://www.national.com/ds/LP/LP3907.pdf; ComponentLink3Description: LP3907 Web Page; ComponentLink3URL: http://www.national.com/pf/LP/LP3907.html; ComponentLink4Description: TLA25AAA Package Page; ComponentLink4URL: http://www.national.com/packaging/folders/tla25aaa.html
footprint TLA25AAA (Micro SMD, 25-Leads, Body 2.49x2.49mm, Pitch 0.5mm, NSC Recommended)
pins: A1 VINLDO1 (power), A2 LDO1 (power), A3 ENLDO2 (in), A4 LDO2 (power), A5 VINLDO2 (power), B1 GND_L (power), B2 SCL (in), B3 ENLDO1 (in), B4 VINLDO12 (power), B5 VINLDO12 (power), C1 GND_SW2 (power), C2 SDA (io), C3 nPOR (oc), C4 EN_T (in), C5 GND_SW1 (power), D1 SW2 (power), D2 ENSW2 (in), D3 GND_C (power), D4 ENSW1 (in), D5 SW1 (power), E1 VIN2 (power), E2 FB2 (in), E3 AVDD (power), E4 FB1 (in), E5 VIN1 (power)

## LP3907TLX-JJCP/NOPB
designator U?
Dual High-Current Step-Down DC/DC and Dual Linear Regulator with I2C Compatible Interface, 25-pin Micro SMD, Pb-Free, 3000 Reel; PartNumber: LP3907TLX-JJCP/NOPB; Manufacturer: National Semiconductor; PackageTopMarking: XYTT*I V016; PowerWise: N; CompType: Switcher; High-Reliability: Y; DatasheetVersion: Aug-2011; PackageVersion: revD, Dec-2003; PackageReference: TLA25AAA; PackageDescription: Thin Micro SMD, 25 Bump (Large), 0.5mm Pitch; RoHS: Y; PinCount: 25; Code_JEDEC: MO-211-DH; ComponentLink1Description: Manufacturer URL; ComponentLink1URL: http://www.national.com/; ComponentLink2Description: LP3907 Datasheet; ComponentLink2URL: http://www.national.com/ds/LP/LP3907.pdf; ComponentLink3Description: LP3907 Web Page; ComponentLink3URL: http://www.national.com/pf/LP/LP3907.html; ComponentLink4Description: TLA25AAA Package Page; ComponentLink4URL: http://www.national.com/packaging/folders/tla25aaa.html
footprint TLA25AAA (Micro SMD, 25-Leads, Body 2.49x2.49mm, Pitch 0.5mm, NSC Recommended)
pins: A1 VINLDO1 (power), A2 LDO1 (power), A3 ENLDO2 (in), A4 LDO2 (power), A5 VINLDO2 (power), B1 GND_L (power), B2 SCL (in), B3 ENLDO1 (in), B4 VINLDO12 (power), B5 VINLDO12 (power), C1 GND_SW2 (power), C2 SDA (io), C3 nPOR (oc), C4 EN_T (in), C5 GND_SW1 (power), D1 SW2 (power), D2 ENSW2 (in), D3 GND_C (power), D4 ENSW1 (in), D5 SW1 (power), E1 VIN2 (power), E2 FB2 (in), E3 AVDD (power), E4 FB1 (in), E5 VIN1 (power)

## LP3907TLX-JSXS/NOPB
designator U?
Dual High-Current Step-Down DC/DC and Dual Linear Regulator with I2C Compatible Interface, 25-pin Micro SMD, Pb-Free, 3000 Reel; PartNumber: LP3907TLX-JSXS/NOPB; Manufacturer: National Semiconductor; PackageTopMarking: XYTT*I V012; PowerWise: N; CompType: Switcher; High-Reliability: Y; DatasheetVersion: Aug-2011; PackageVersion: revD, Dec-2003; PackageReference: TLA25AAA; PackageDescription: Thin Micro SMD, 25 Bump (Large), 0.5mm Pitch; RoHS: Y; PinCount: 25; Code_JEDEC: MO-211-DH; ComponentLink1Description: Manufacturer URL; ComponentLink1URL: http://www.national.com/; ComponentLink2Description: LP3907 Datasheet; ComponentLink2URL: http://www.national.com/ds/LP/LP3907.pdf; ComponentLink3Description: LP3907 Web Page; ComponentLink3URL: http://www.national.com/pf/LP/LP3907.html; ComponentLink4Description: TLA25AAA Package Page; ComponentLink4URL: http://www.national.com/packaging/folders/tla25aaa.html
footprint TLA25AAA (Micro SMD, 25-Leads, Body 2.49x2.49mm, Pitch 0.5mm, NSC Recommended)
pins: A1 VINLDO1 (power), A2 LDO1 (power), A3 ENLDO2 (in), A4 LDO2 (power), A5 VINLDO2 (power), B1 GND_L (power), B2 SCL (in), B3 ENLDO1 (in), B4 VINLDO12 (power), B5 VINLDO12 (power), C1 GND_SW2 (power), C2 SDA (io), C3 nPOR (oc), C4 EN_T (in), C5 GND_SW1 (power), D1 SW2 (power), D2 ENSW2 (in), D3 GND_C (power), D4 ENSW1 (in), D5 SW1 (power), E1 VIN2 (power), E2 FB2 (in), E3 AVDD (power), E4 FB1 (in), E5 VIN1 (power)

## LP3907TLX-PLNTO/NOPB
designator U?
Dual High-Current Step-Down DC/DC and Dual Linear Regulator with I2C Compatible Interface, 25-pin Micro SMD, Pb-Free, 3000 Reel; PartNumber: LP3907TLX-PLNTO/NOPB; Manufacturer: National Semiconductor; PackageTopMarking: XYTT*I V027; PowerWise: N; CompType: Switcher; High-Reliability: Y; DatasheetVersion: Aug-2011; PackageVersion: revD, Dec-2003; PackageReference: TLA25AAA; PackageDescription: Thin Micro SMD, 25 Bump (Large), 0.5mm Pitch; RoHS: Y; PinCount: 25; Code_JEDEC: MO-211-DH; ComponentLink1Description: Manufacturer URL; ComponentLink1URL: http://www.national.com/; ComponentLink2Description: LP3907 Datasheet; ComponentLink2URL: http://www.national.com/ds/LP/LP3907.pdf; ComponentLink3Description: LP3907 Web Page; ComponentLink3URL: http://www.national.com/pf/LP/LP3907.html; ComponentLink4Description: TLA25AAA Package Page; ComponentLink4URL: http://www.national.com/packaging/folders/tla25aaa.html
footprint TLA25AAA (Micro SMD, 25-Leads, Body 2.49x2.49mm, Pitch 0.5mm, NSC Recommended)
pins: A1 VINLDO1 (power), A2 LDO1 (power), A3 ENLDO2 (in), A4 LDO2 (power), A5 VINLDO2 (power), B1 GND_L (power), B2 SCL (in), B3 ENLDO1 (in), B4 VINLDO12 (power), B5 VINLDO12 (power), C1 GND_SW2 (power), C2 SDA (io), C3 nPOR (oc), C4 EN_T (in), C5 GND_SW1 (power), D1 SW2 (power), D2 ENSW2 (in), D3 GND_C (power), D4 ENSW1 (in), D5 SW1 (power), E1 VIN2 (power), E2 FB2 (in), E3 AVDD (power), E4 FB1 (in), E5 VIN1 (power)

## LP3943ISQ
designator U?
RGB/White/Blue 16-LED Fun Light Driver, 24-pin LLP; PartNumber: LP3943ISQ; Manufacturer: National Semiconductor; PackageTopMarking: NS*UZXYTT*3943SQ; PowerWise: Y; CompType: Switcher; DatasheetVersion: Nov-2003; PackageVersion: revA, Sep-2003; PackageReference: SQA24C; PackageDescription: LLP, Plastic, Quad, 4 x 4 x 0.8mm Body, 24 Lead, 0.5mm Pitch, No Pullback, Custom; RoHS: N; PinCount: 24; High-Reliability: Y; Code_JEDEC: MO-220-WGGD-2; ComponentLink1Description: Manufacturer URL; ComponentLink1URL: http://www.national.com/; ComponentLink2Description: LP3943 Datasheet; ComponentLink2URL: http://www.national.com/ds/LP/LP3943.pdf; ComponentLink3Description: LP3943 Web Page; ComponentLink3URL: http://www.national.com/pf/LP/LP3943.html; ComponentLink4Description: SQA24C Package Page; ComponentLink4URL: http://www.national.com/packaging/folders/sqa24c.html
footprint SQA24C (QFN, 24-Leads, Body 4x4mm, Pitch 0.5mm, NSC Recommended)
pins: 1 LED 0 (out), 2 LED 1 (out), 3 LED 2 (out), 4 LED 3 (out), 5 LED 4 (out), 6 LED 5 (out), 7 LED 6 (out), 8 LED 7 (out), 9 GND (power), 10 LED 8 (out), 11 LED 9 (out), 12 LED 10 (out), 13 LED 11 (out), 14 LED 12 (out), 15 LED 13 (out), 16 LED 14 (out), 17 LED 15 (out), 18 ~{RST} (in), 19 SCL (in), 20 SDA (in), 21 VDD (power), 22 A0 (in), 23 A1 (in), 24 A2 (in), 25 DAP (power)

## LP3943ISQ/NOPB
designator U?
RGB/White/Blue 16-LED Fun Light Driver, 24-pin LLP, Pb-Free; PartNumber: LP3943ISQ/NOPB; Manufacturer: National Semiconductor; PackageTopMarking: NS*UZXYTT*3943SQ; PowerWise: Y; CompType: Switcher; DatasheetVersion: Nov-2003; PackageVersion: revA, Sep-2003; PackageReference: SQA24C; PackageDescription: LLP, Plastic, Quad, 4 x 4 x 0.8mm Body, 24 Lead, 0.5mm Pitch, No Pullback, Custom; RoHS: Y; PinCount: 24; High-Reliability: Y; Code_JEDEC: MO-220-WGGD-2; ComponentLink1Description: Manufacturer URL; ComponentLink1URL: http://www.national.com/; ComponentLink2Description: LP3943 Datasheet; ComponentLink2URL: http://www.national.com/ds/LP/LP3943.pdf; ComponentLink3Description: LP3943 Web Page; ComponentLink3URL: http://www.national.com/pf/LP/LP3943.html; ComponentLink4Description: SQA24C Package Page; ComponentLink4URL: http://www.national.com/packaging/folders/sqa24c.html
footprint SQA24C (QFN, 24-Leads, Body 4x4mm, Pitch 0.5mm, NSC Recommended)
pins: 1 LED 0 (out), 2 LED 1 (out), 3 LED 2 (out), 4 LED 3 (out), 5 LED 4 (out), 6 LED 5 (out), 7 LED 6 (out), 8 LED 7 (out), 9 GND (power), 10 LED 8 (out), 11 LED 9 (out), 12 LED 10 (out), 13 LED 11 (out), 14 LED 12 (out), 15 LED 13 (out), 16 LED 14 (out), 17 LED 15 (out), 18 ~{RST} (in), 19 SCL (in), 20 SDA (in), 21 VDD (power), 22 A0 (in), 23 A1 (in), 24 A2 (in), 25 DAP (power)

## LP3943ISQX
designator U?
RGB/White/Blue 16-LED Fun Light Driver, 24-pin LLP; PartNumber: LP3943ISQX; Manufacturer: National Semiconductor; PackageTopMarking: NS*UZXYTT*3943SQ; PowerWise: Y; CompType: Switcher; DatasheetVersion: Nov-2003; PackageVersion: revA, Sep-2003; PackageReference: SQA24C; PackageDescription: LLP, Plastic, Quad, 4 x 4 x 0.8mm Body, 24 Lead, 0.5mm Pitch, No Pullback, Custom; RoHS: N; PinCount: 24; High-Reliability: Y; Code_JEDEC: MO-220-WGGD-2; ComponentLink1Description: Manufacturer URL; ComponentLink1URL: http://www.national.com/; ComponentLink2Description: LP3943 Datasheet; ComponentLink2URL: http://www.national.com/ds/LP/LP3943.pdf; ComponentLink3Description: LP3943 Web Page; ComponentLink3URL: http://www.national.com/pf/LP/LP3943.html; ComponentLink4Description: SQA24C Package Page; ComponentLink4URL: http://www.national.com/packaging/folders/sqa24c.html
footprint SQA24C (QFN, 24-Leads, Body 4x4mm, Pitch 0.5mm, NSC Recommended)
pins: 1 LED 0 (out), 2 LED 1 (out), 3 LED 2 (out), 4 LED 3 (out), 5 LED 4 (out), 6 LED 5 (out), 7 LED 6 (out), 8 LED 7 (out), 9 GND (power), 10 LED 8 (out), 11 LED 9 (out), 12 LED 10 (out), 13 LED 11 (out), 14 LED 12 (out), 15 LED 13 (out), 16 LED 14 (out), 17 LED 15 (out), 18 ~{RST} (in), 19 SCL (in), 20 SDA (in), 21 VDD (power), 22 A0 (in), 23 A1 (in), 24 A2 (in), 25 DAP (power)

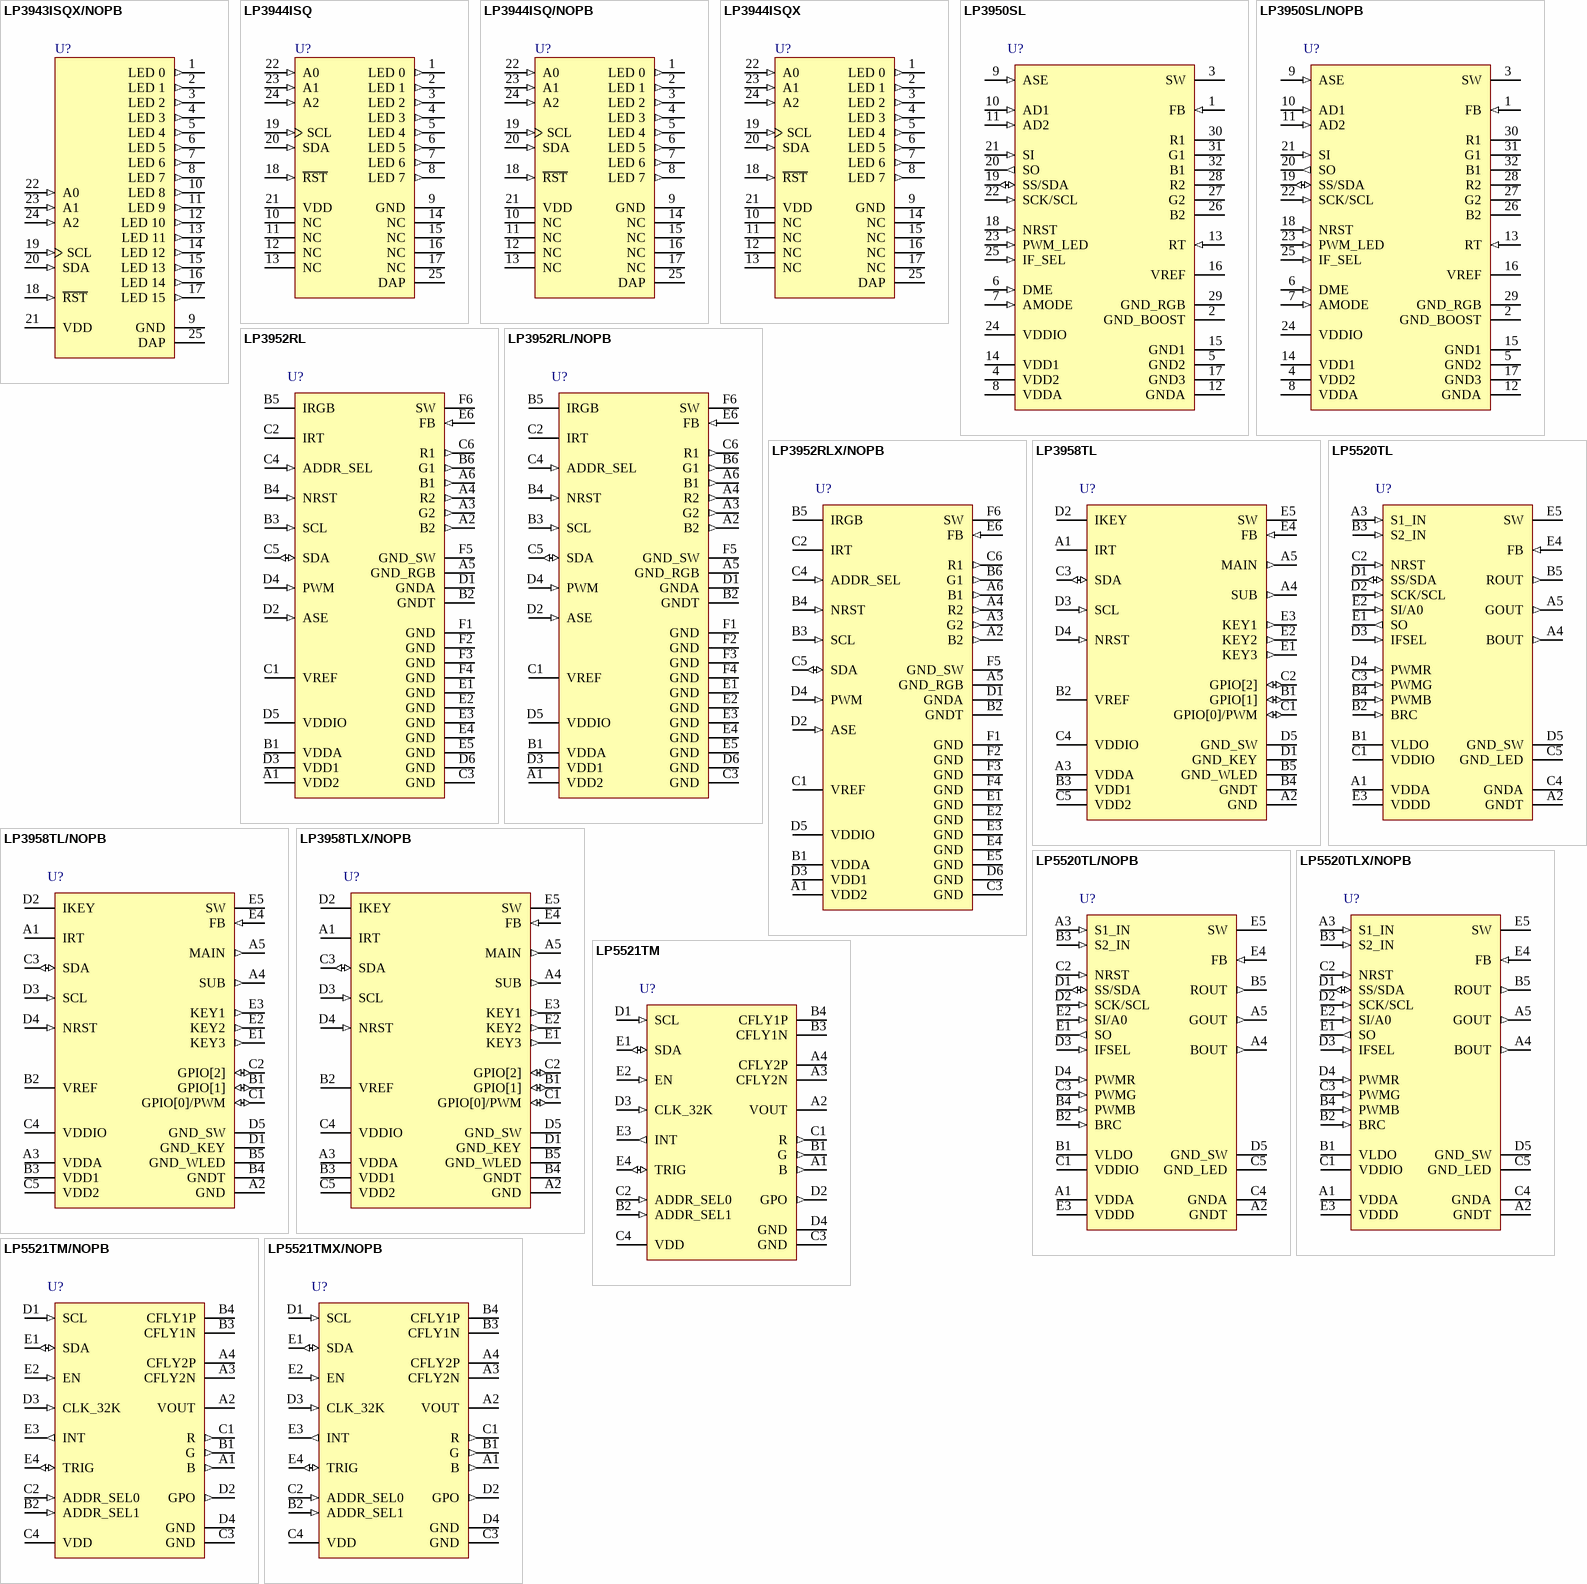
[diagram p67: symbols LP3943ISQX/NOPB to LP5521TMX/NOPB]

## LP3943ISQX/NOPB
designator U?
RGB/White/Blue 16-LED Fun Light Driver, 24-pin LLP, Pb-Free; PartNumber: LP3943ISQX/NOPB; Manufacturer: National Semiconductor; PackageTopMarking: NS*UZXYTT*3943SQ; PowerWise: Y; CompType: Switcher; DatasheetVersion: Nov-2003; PackageVersion: revA, Sep-2003; PackageReference: SQA24C; PackageDescription: LLP, Plastic, Quad, 4 x 4 x 0.8mm Body, 24 Lead, 0.5mm Pitch, No Pullback, Custom; RoHS: Y; PinCount: 24; High-Reliability: Y; Code_JEDEC: MO-220-WGGD-2; ComponentLink1Description: Manufacturer URL; ComponentLink1URL: http://www.national.com/; ComponentLink2Description: LP3943 Datasheet; ComponentLink2URL: http://www.national.com/ds/LP/LP3943.pdf; ComponentLink3Description: LP3943 Web Page; ComponentLink3URL: http://www.national.com/pf/LP/LP3943.html; ComponentLink4Description: SQA24C Package Page; ComponentLink4URL: http://www.national.com/packaging/folders/sqa24c.html
footprint SQA24C (QFN, 24-Leads, Body 4x4mm, Pitch 0.5mm, NSC Recommended)
pins: 1 LED 0 (out), 2 LED 1 (out), 3 LED 2 (out), 4 LED 3 (out), 5 LED 4 (out), 6 LED 5 (out), 7 LED 6 (out), 8 LED 7 (out), 9 GND (power), 10 LED 8 (out), 11 LED 9 (out), 12 LED 10 (out), 13 LED 11 (out), 14 LED 12 (out), 15 LED 13 (out), 16 LED 14 (out), 17 LED 15 (out), 18 ~{RST} (in), 19 SCL (in), 20 SDA (in), 21 VDD (power), 22 A0 (in), 23 A1 (in), 24 A2 (in), 25 DAP (power)